# EAGLE library part PAC1710/20 (library PAC17X0)
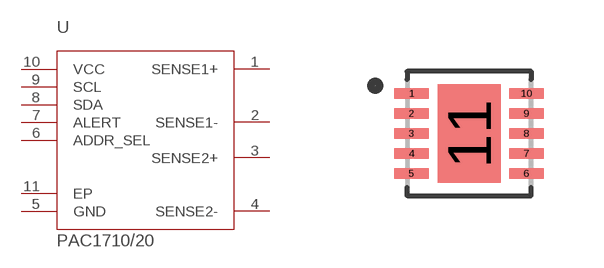
[diagram p0: symbol with the pads of SON50P300X300X100-11N; footprint SON50P300X300X100-11N]

Designator prefix -

## PAC1710/20  [SON50P300X300X100-11N]
1  SENSE1+
2  SENSE1-
3  SENSE2+
4  SENSE2-
5  GND
6  ADDR_SEL
7  ALERT
8  SDA
9  SCL
10  VCC
11  EP

## Footprint SON50P300X300X100-11N (pad centres in mm)
smd 0.86 x 0.26: 1 -1.435,1; 2 -1.435,0.5; 3 -1.435,0; 4 -1.435,-0.5; 5 -1.435,-1; 6 1.435,-1; 7 1.435,-0.5; 8 1.435,0; 9 1.435,0.5; 10 1.435,1
smd 1.575 x 2.45: 11 0,0